# EAGLE library part MMA7660 (library sensors)
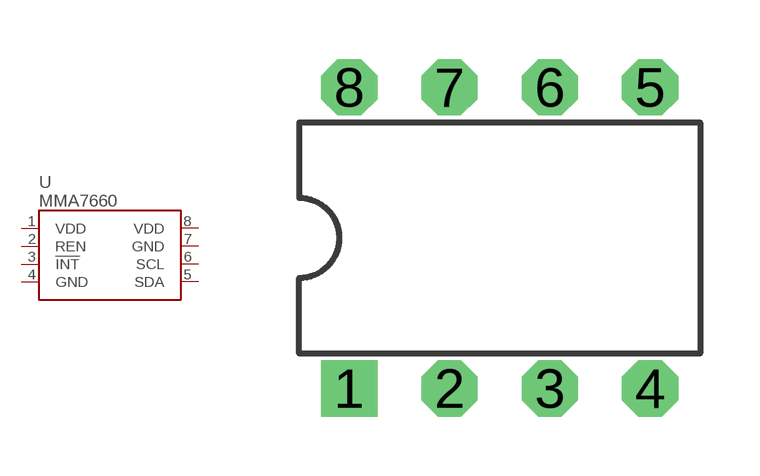
[diagram p0: symbol with the pads of DIP08; footprint DIP08]

Designator prefix -

## MMA7660  [DIP08]
1  VDD  pwr
2  REN
3  !INT
4  GND  pwr
5  SDA
6  SCL
7  GND  pwr
8  VDD  pwr

## Footprint DIP08 (pad centres in mm)
drill 0.7 pad 1.422 square: 1 -3.81,-3.81
drill 0.7 pad 1.422 octagon: 2 -1.27,-3.81; 3 1.27,-3.81; 4 3.81,-3.81; 5 3.81,3.81; 6 1.27,3.81; 7 -1.27,3.81; 8 -3.81,3.81